# Altium footprint library DO-201AD.PcbLib: 1 footprints
Each footprint in its own frame and in the unit in brackets; x right, y up, seen from the top. Pads: shape width x height; smd on the part's side, far side on the other; paste and mask are expansions set on the pad; w line width, h text height; cw(c..) or ccw(c..) is an arc to the next point about the centre after c.
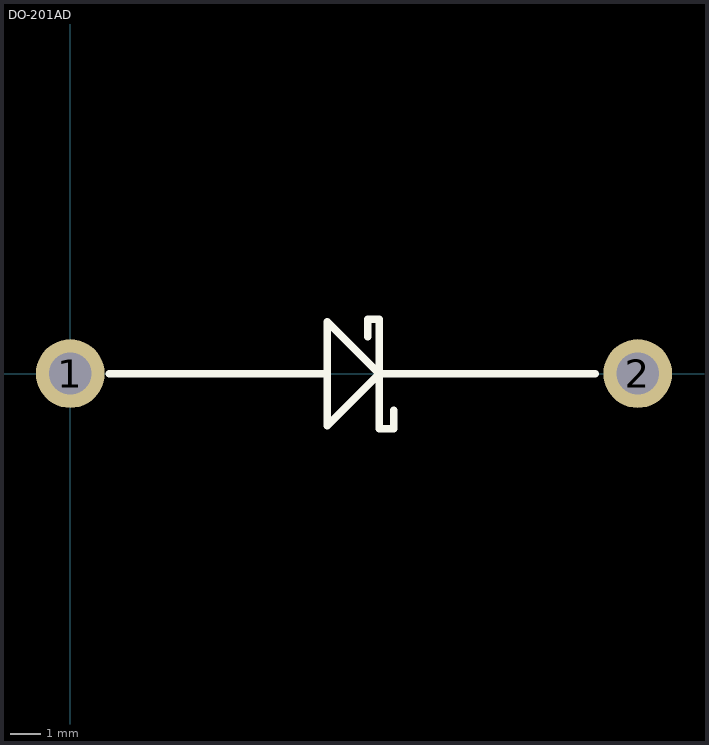
[diagram p0: the footprint, top view; thin cyan lines are the x and y axes]

## DO-201AD [mil] "DIODE SCHOTTKY 60V 5A DO201AD"
height 45
pads (2):
  round 90 hole 55: 1(0,0) 2(742,0)
TopOverlay:
  lines w10: 51,0 336,0 ; 389,48 389,71 404,71 404,0 ; 423,-48 423,-72 404,-72 404,0 ; 686,0 404,0 ; 336,0 336,68 404,0 ; 336,0 336,-68 404,0
3D body: height 186.02, standoff -192.72, extent -25.46,-111 767.46,111.05